# EAGLE library part MTA14-156 (library con-amp)
AMP connector
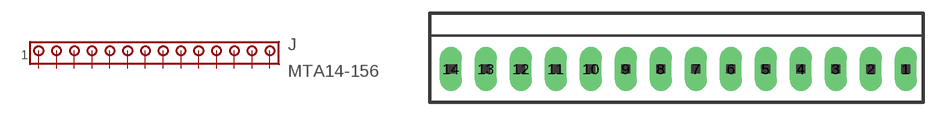
[diagram p121: symbol with the pads of 1X14MTA; footprint 1X14MTA]

Designator prefix J

## MTA14-156  [1X14MTA]
1  1  pas
2  2  pas
3  3  pas
4  4  pas
5  5  pas
6  6  pas
7  7  pas
8  8  pas
9  9  pas
10  10  pas
11  11  pas
12  12  pas
13  13  pas
14  14  pas

## Footprint 1X14MTA (pad centres in mm)
AMP MTA connector
drill 1.676 long: 1 25.756,0; 2 21.793,0; 3 17.831,0; 4 13.868,0; 5 9.906,0; 6 5.944,0; 7 1.981,0; 8 -1.981,0; 9 -5.944,0; 10 -9.906,0; 11 -13.868,0; 12 -17.831,0; 13 -21.793,0; 14 -25.756,0